# EAGLE library part CP2110 (library aurigaBot)
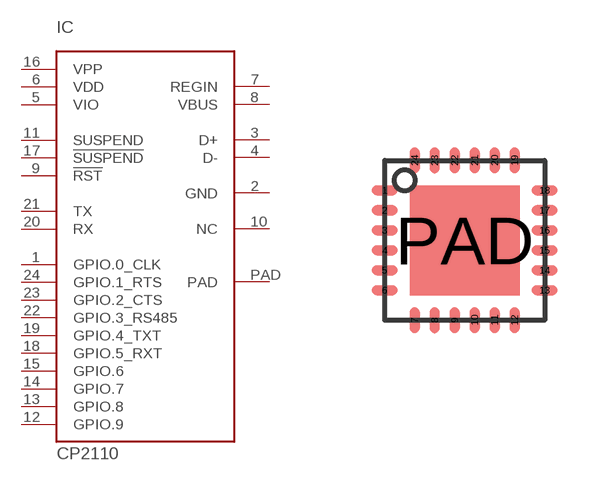
[diagram p3: symbol with the pads of QFN24; footprint QFN24]

Designator prefix IC

## CP2110  [QFN24]
1  GPIO.0_CLK
2  GND
3  D+
4  D-
5  VIO
6  VDD
7  REGIN
8  VBUS
9  !RST
10  NC
11  SUSPEND
12  GPIO.9
13  GPIO.8
14  GPIO.7
15  GPIO.6
16  VPP
17  !SUSPEND
18  GPIO.5_RXT
19  GPIO.4_TXT
20  RX
21  TX
22  GPIO.3_RS485
23  GPIO.2_CTS
24  GPIO.1_RTS
PAD  PAD

## Footprint QFN24 (pad centres in mm)
smd 0.65 x 0.25: 1 -2,1.25; 2 -2,0.75; 3 -2,0.25; 4 -2,-0.25; 5 -2,-0.75; 6 -2,-1.25; 13 2,-1.25; 14 2,-0.75; 15 2,-0.25; 16 2,0.25; 17 2,0.75; 18 2,1.25
smd 0.25 x 0.65: 7 -1.25,-2; 8 -0.75,-2; 9 -0.25,-2; 10 0.25,-2; 11 0.75,-2; 12 1.25,-2; 19 1.25,2; 20 0.75,2; 21 0.25,2; 22 -0.25,2; 23 -0.75,2; 24 -1.25,2
smd 2.75 x 2.75: PAD 0,0